# EAGLE library part 2SMPP-03 (library programmable-air-components)
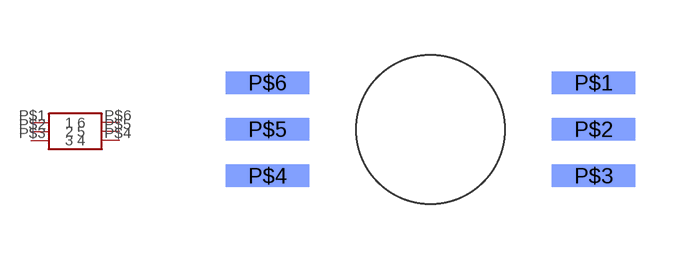
[diagram p1: symbol with the pads of 2SMPP-03; footprint 2SMPP-03]

Designator prefix -

## 2SMPP-03  [2SMPP-03]
P$1  1
P$2  2
P$3  3
P$4  4
P$5  5
P$6  6

## Footprint 2SMPP-03 (pad centres in mm)
smd 2.286 x 0.61 bottom: P$1 4.445,1.27; P$2 4.445,0; P$3 4.445,-1.27; P$4 -4.445,-1.27; P$5 -4.445,0; P$6 -4.445,1.27
hole 4.064 at 0,0